# Altium schematic symbol library Relay.SchLib: 1 symbol
Pins are listed as number, name and electrical type; pins without a type are passive.

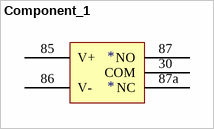
[diagram p0: symbol Component_1]

## Component_1
designator *
pins: 30 COM, 85 V+, 86 V-, 87 NO, 87a NC